# Altium integrated library Linear Technology Operational Amplifiers (LT1000).IntLib: 2280 symbols (part 53 of 79)
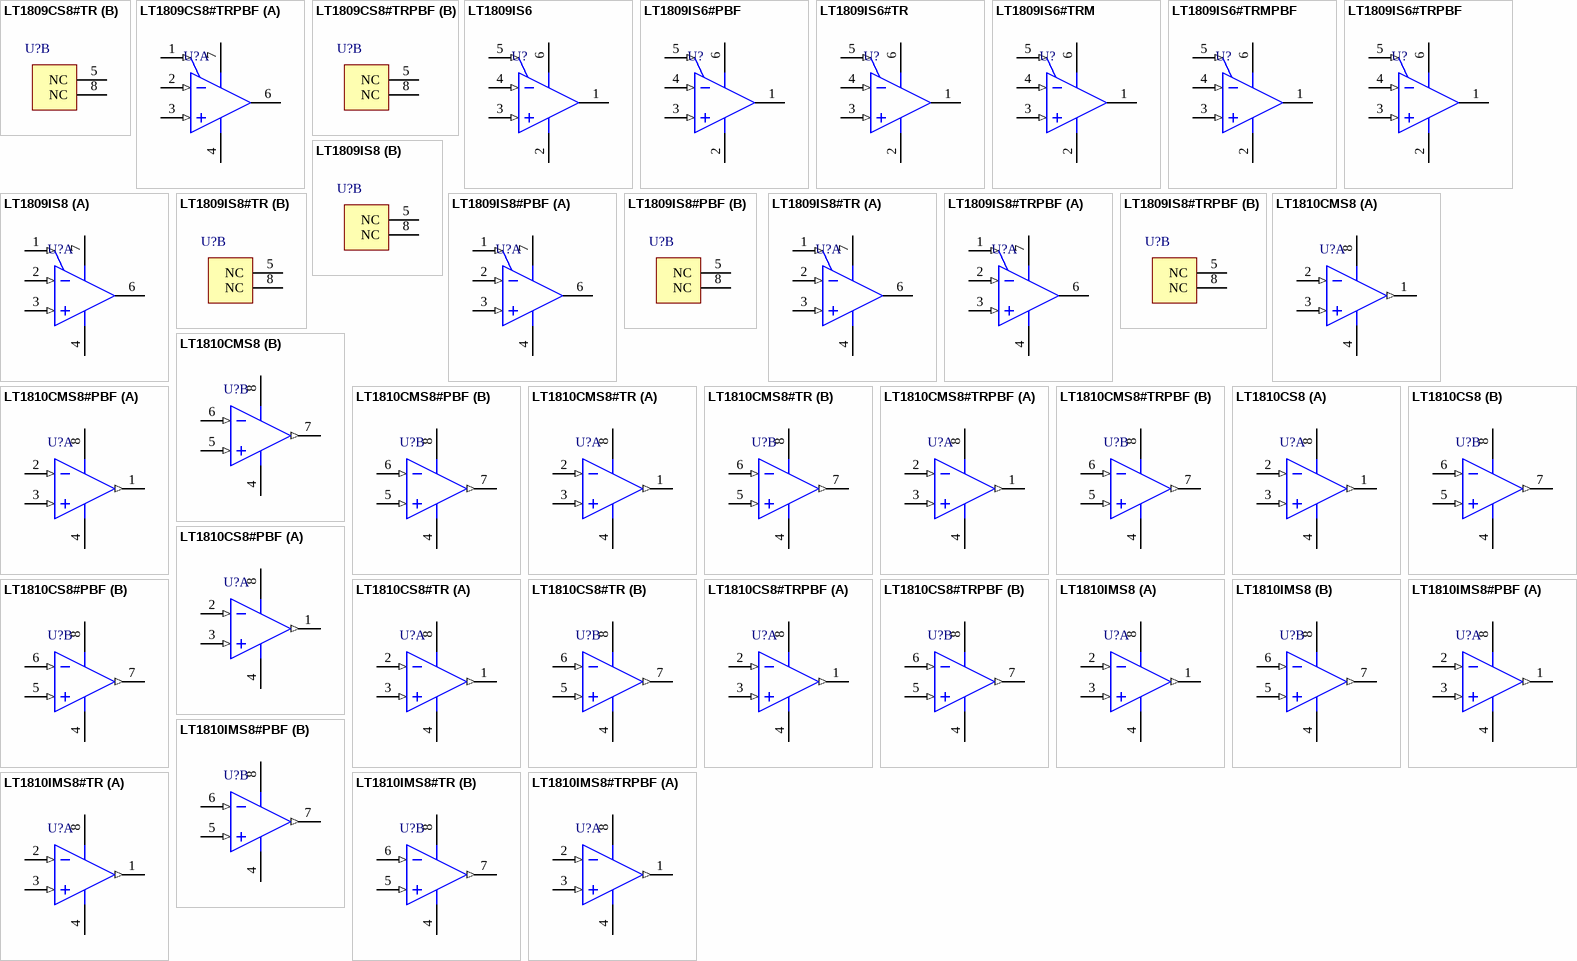
[diagram p157: symbols LT1809CS8#TR to LT1810IMS8#TRPBF]

## LT1809IS8#TR
designator U?
Single Channel, Low Distortion, High Speed, Low Noise Operational Amplifier, RRIO, 160 MHz Typical GBW, 300 V/us Typical SR, 2.5 to 12.6 V, 8-Pin SOIC (S8-8), Industrial, Reel; Linear Technology Part Number: LT1809; Manufacturer: Linear Technology; PartNumber: LT1809IS8#TR; Channels (#): 1; GBW (MHz) Typical: 160; Is (mA) Typical: 12.5; SR (V/us) Typical: 300; Vos (mV) Guaranteed: 2.5; Vos (mV) Typical: 0.6; Vs Max (V): 12.6; DatasheetVersion: Rev. A; PackageVersion: Rev G; PackageReference: LT-S8-8; PackageDescription: 8-Pin Plastic Small Outline, Body 4.9 x 3.9 mm, Pitch 1.27 mm; Supplier 1: Digi-Key; Supplier Part Number 1: LT1809IS8#TR-ND; Packing: Reel; Type: VFB; Vs Min (V): 2.5; Mounting Technology: Surface Mount; ComponentLink1Description: Manufacturer URL; ComponentLink1URL: http://www.linear.com/; ComponentLink2Description: Datasheet; ComponentLink2URL: http://cds.linear.com/docs/en/datasheet/180910fa.pdf; ComponentLink3Description: Package Specification; ComponentLink3URL: http://cds.linear.com/docs/en/packaging/05081610_G_SO8.pdf
footprint LT-S8-8_N (SOIC, 8-Leads, Body 4.9x3.9mm, Pitch 1.27mm, IPC Medium Density)
footprint LT-S8-8_L (SOIC, 8-Leads, Body 4.9x3.9mm, Pitch 1.27mm, IPC High Density)
footprint LT-S8-8_M (SOIC, 8-Leads, Body 4.9x3.9mm, Pitch 1.27mm, IPC Low Density)
part A pins: 1 ~{SHDN} (in), 2 -IN (in), 3 +IN (in), 4 V- (power), 6 OUT (hiz), 7 V+ (power)
part B pins: 5 NC, 8 NC

## LT1809IS8#TRPBF
designator U?
Single Channel, Low Distortion, High Speed, Low Noise Operational Amplifier, RRIO, 160 MHz Typical GBW, 300 V/us Typical SR, 2.5 to 12.6 V, 8-Pin SOIC (S8-8), Industrial, Pb-Free, Reel; Linear Technology Part Number: LT1809; Manufacturer: Linear Technology; PartNumber: LT1809IS8#TRPBF; Channels (#): 1; GBW (MHz) Typical: 160; Is (mA) Typical: 12.5; SR (V/us) Typical: 300; Vos (mV) Guaranteed: 2.5; Vos (mV) Typical: 0.6; Vs Max (V): 12.6; DatasheetVersion: Rev. A; PackageVersion: Rev G; PackageReference: LT-S8-8; PackageDescription: 8-Pin Plastic Small Outline, Body 4.9 x 3.9 mm, Pitch 1.27 mm; Supplier 1: Digi-Key; Supplier Part Number 1: LT1809IS8#TRPBF-ND; Packing: Reel; RoHS: Pb-Free; Type: VFB; Vs Min (V): 2.5; Mounting Technology: Surface Mount; ComponentLink1Description: Manufacturer URL; ComponentLink1URL: http://www.linear.com/; ComponentLink2Description: Datasheet; ComponentLink2URL: http://cds.linear.com/docs/en/datasheet/180910fa.pdf; ComponentLink3Description: Package Specification; ComponentLink3URL: http://cds.linear.com/docs/en/packaging/05081610_G_SO8.pdf
footprint LT-S8-8_N (SOIC, 8-Leads, Body 4.9x3.9mm, Pitch 1.27mm, IPC Medium Density)
footprint LT-S8-8_L (SOIC, 8-Leads, Body 4.9x3.9mm, Pitch 1.27mm, IPC High Density)
footprint LT-S8-8_M (SOIC, 8-Leads, Body 4.9x3.9mm, Pitch 1.27mm, IPC Low Density)
part A pins: 1 ~{SHDN} (in), 2 -IN (in), 3 +IN (in), 4 V- (power), 6 OUT (hiz), 7 V+ (power)
part B pins: 5 NC, 8 NC

## LT1810CMS8
designator U?
Dual Channel, Low Distortion, High Speed, Low Noise Operational Amplifier, RRIO, 160 MHz Typical GBW, 300 V/us Typical SR, 2.3 to 12.6 V, 8-Pin SOP (MS8-8), Commercial; Linear Technology Part Number: LT1810; Manufacturer: Linear Technology; PartNumber: LT1810CMS8; Channels (#): 2; GBW (MHz) Typical: 160; Is (mA) Typical: 12.5; SR (V/us) Typical: 300; Vos (mV) Guaranteed: 2.5; Vos (mV) Typical: 0.6; Vs Max (V): 12.6; Vs Min (V): 2.3; DatasheetVersion: Rev. A; PackageVersion: Rev G; PackageReference: LT-MS8-8; PackageDescription: 8-Lead Plastic Small Outline, Body 3.9 x 4.9 mm, Pitch 1.27 mm; Supplier 1: Digi-Key; Supplier Part Number 1: LT1810CMS8-ND; Type: VFB; Mounting Technology: Surface Mount; ComponentLink1Description: Manufacturer URL; ComponentLink1URL: http://www.linear.com/; ComponentLink2Description: Datasheet; ComponentLink2URL: http://cds.linear.com/docs/en/datasheet/180910fa.pdf; ComponentLink3Description: Package Specification; ComponentLink3URL: http://cds.linear.com/docs/en/packaging/05081610_G_SO8.pdf
footprint LT-MS8-8_N (SOP, 8-Leads, Body 3x3mm, Pitch 0.65mm, IPC Medium Density)
footprint LT-MS8-8_L (SOP, 8-Leads, Body 3x3mm, Pitch 0.65mm, IPC High Density)
footprint LT-MS8-8_M (SOP, 8-Leads, Body 3x3mm, Pitch 0.65mm, IPC Low Density)
pins on every part: 4 V- (power), 8 V+ (power)
part A pins: 1 OUT A (out), 2 -IN A (in), 3 +IN A (in)
part B pins: 5 +IN B (in), 6 -IN B (in), 7 OUT B (out)

## LT1810CMS8#PBF
designator U?
Dual Channel, Low Distortion, High Speed, Low Noise Operational Amplifier, RRIO, 160 MHz Typical GBW, 300 V/us Typical SR, 2.3 to 12.6 V, 8-Pin SOP (MS8-8), Commercial, Pb-Free; Linear Technology Part Number: LT1810; Manufacturer: Linear Technology; PartNumber: LT1810CMS8#PBF; Channels (#): 2; GBW (MHz) Typical: 160; Is (mA) Typical: 12.5; SR (V/us) Typical: 300; Vos (mV) Guaranteed: 2.5; Vos (mV) Typical: 0.6; Vs Max (V): 12.6; Vs Min (V): 2.3; DatasheetVersion: Rev. A; PackageVersion: Rev G; PackageReference: LT-MS8-8; PackageDescription: 8-Lead Plastic Small Outline, Body 3.9 x 4.9 mm, Pitch 1.27 mm; Supplier 1: Digi-Key; Supplier Part Number 1: LT1810CMS8#PBF-ND; Supplier 2: Farnell; Supplier Part Number 2: 1330712; Supplier 3: Newark; Supplier Part Number 3: 57M6859; RoHS: Pb-Free; Type: VFB; Mounting Technology: Surface Mount; ComponentLink1Description: Manufacturer URL; ComponentLink1URL: http://www.linear.com/; ComponentLink2Description: Datasheet; ComponentLink2URL: http://cds.linear.com/docs/en/datasheet/180910fa.pdf; ComponentLink3Description: Package Specification; ComponentLink3URL: http://cds.linear.com/docs/en/packaging/05081610_G_SO8.pdf
footprint LT-MS8-8_N (SOP, 8-Leads, Body 3x3mm, Pitch 0.65mm, IPC Medium Density)
footprint LT-MS8-8_L (SOP, 8-Leads, Body 3x3mm, Pitch 0.65mm, IPC High Density)
footprint LT-MS8-8_M (SOP, 8-Leads, Body 3x3mm, Pitch 0.65mm, IPC Low Density)
pins on every part: 4 V- (power), 8 V+ (power)
part A pins: 1 OUT A (out), 2 -IN A (in), 3 +IN A (in)
part B pins: 5 +IN B (in), 6 -IN B (in), 7 OUT B (out)

## LT1810CMS8#TR
designator U?
Dual Channel, Low Distortion, High Speed, Low Noise Operational Amplifier, RRIO, 160 MHz Typical GBW, 300 V/us Typical SR, 2.3 to 12.6 V, 8-Pin SOP (MS8-8), Commercial, Reel; Linear Technology Part Number: LT1810; Manufacturer: Linear Technology; PartNumber: LT1810CMS8#TR; Channels (#): 2; GBW (MHz) Typical: 160; Is (mA) Typical: 12.5; SR (V/us) Typical: 300; Vos (mV) Guaranteed: 2.5; Vos (mV) Typical: 0.6; Vs Max (V): 12.6; Vs Min (V): 2.3; DatasheetVersion: Rev. A; PackageVersion: Rev G; PackageReference: LT-MS8-8; PackageDescription: 8-Lead Plastic Small Outline, Body 3.9 x 4.9 mm, Pitch 1.27 mm; Supplier 1: Digi-Key; Supplier Part Number 1: LT1810CMS8#TR-ND; Packing: Reel; Type: VFB; Mounting Technology: Surface Mount; ComponentLink1Description: Manufacturer URL; ComponentLink1URL: http://www.linear.com/; ComponentLink2Description: Datasheet; ComponentLink2URL: http://cds.linear.com/docs/en/datasheet/180910fa.pdf; ComponentLink3Description: Package Specification; ComponentLink3URL: http://cds.linear.com/docs/en/packaging/05081610_G_SO8.pdf
footprint LT-MS8-8_N (SOP, 8-Leads, Body 3x3mm, Pitch 0.65mm, IPC Medium Density)
footprint LT-MS8-8_L (SOP, 8-Leads, Body 3x3mm, Pitch 0.65mm, IPC High Density)
footprint LT-MS8-8_M (SOP, 8-Leads, Body 3x3mm, Pitch 0.65mm, IPC Low Density)
pins on every part: 4 V- (power), 8 V+ (power)
part A pins: 1 OUT A (out), 2 -IN A (in), 3 +IN A (in)
part B pins: 5 +IN B (in), 6 -IN B (in), 7 OUT B (out)

## LT1810CMS8#TRPBF
designator U?
Dual Channel, Low Distortion, High Speed, Low Noise Operational Amplifier, RRIO, 160 MHz Typical GBW, 300 V/us Typical SR, 2.3 to 12.6 V, 8-Pin SOP (MS8-8), Commercial, Pb-Free, Reel; Linear Technology Part Number: LT1810; Manufacturer: Linear Technology; PartNumber: LT1810CMS8#TRPBF; Channels (#): 2; GBW (MHz) Typical: 160; Is (mA) Typical: 12.5; SR (V/us) Typical: 300; Vos (mV) Guaranteed: 2.5; Vos (mV) Typical: 0.6; Vs Max (V): 12.6; Vs Min (V): 2.3; DatasheetVersion: Rev. A; PackageVersion: Rev G; PackageReference: LT-MS8-8; PackageDescription: 8-Lead Plastic Small Outline, Body 3.9 x 4.9 mm, Pitch 1.27 mm; Supplier 1: Digi-Key; Supplier Part Number 1: LT1810CMS8#TRPBF-ND; Packing: Reel; RoHS: Pb-Free; Type: VFB; Mounting Technology: Surface Mount; ComponentLink1Description: Manufacturer URL; ComponentLink1URL: http://www.linear.com/; ComponentLink2Description: Datasheet; ComponentLink2URL: http://cds.linear.com/docs/en/datasheet/180910fa.pdf; ComponentLink3Description: Package Specification; ComponentLink3URL: http://cds.linear.com/docs/en/packaging/05081610_G_SO8.pdf
footprint LT-MS8-8_N (SOP, 8-Leads, Body 3x3mm, Pitch 0.65mm, IPC Medium Density)
footprint LT-MS8-8_L (SOP, 8-Leads, Body 3x3mm, Pitch 0.65mm, IPC High Density)
footprint LT-MS8-8_M (SOP, 8-Leads, Body 3x3mm, Pitch 0.65mm, IPC Low Density)
pins on every part: 4 V- (power), 8 V+ (power)
part A pins: 1 OUT A (out), 2 -IN A (in), 3 +IN A (in)
part B pins: 5 +IN B (in), 6 -IN B (in), 7 OUT B (out)

## LT1810CS8
designator U?
Dual Channel, Low Distortion, High Speed, Low Noise Operational Amplifier, RRIO, 160 MHz Typical GBW, 300 V/us Typical SR, 2.3 to 12.6 V, 8-Pin SOIC (S8-8), Commercial; Linear Technology Part Number: LT1810; Manufacturer: Linear Technology; PartNumber: LT1810CS8; Channels (#): 2; GBW (MHz) Typical: 160; Is (mA) Typical: 12.5; SR (V/us) Typical: 300; Vos (mV) Guaranteed: 2.5; Vos (mV) Typical: 0.6; Vs Max (V): 12.6; Vs Min (V): 2.3; DatasheetVersion: Rev. A; PackageVersion: Rev G; PackageReference: LT-S8-8; PackageDescription: 8-Pin Plastic Small Outline, Body 4.9 x 3.9 mm, Pitch 1.27 mm; Supplier 1: Digi-Key; Supplier Part Number 1: LT1810CS8-ND; Type: VFB; Mounting Technology: Surface Mount; ComponentLink1Description: Manufacturer URL; ComponentLink1URL: http://www.linear.com/; ComponentLink2Description: Datasheet; ComponentLink2URL: http://cds.linear.com/docs/en/datasheet/180910fa.pdf; ComponentLink3Description: Package Specification; ComponentLink3URL: http://cds.linear.com/docs/en/packaging/05081610_G_SO8.pdf
footprint LT-S8-8_N (SOIC, 8-Leads, Body 4.9x3.9mm, Pitch 1.27mm, IPC Medium Density)
footprint LT-S8-8_L (SOIC, 8-Leads, Body 4.9x3.9mm, Pitch 1.27mm, IPC High Density)
footprint LT-S8-8_M (SOIC, 8-Leads, Body 4.9x3.9mm, Pitch 1.27mm, IPC Low Density)
pins on every part: 4 V- (power), 8 V+ (power)
part A pins: 1 OUT A (out), 2 -IN A (in), 3 +IN A (in)
part B pins: 5 +IN B (in), 6 -IN B (in), 7 OUT B (out)

## LT1810CS8#PBF
designator U?
Dual Channel, Low Distortion, High Speed, Low Noise Operational Amplifier, RRIO, 160 MHz Typical GBW, 300 V/us Typical SR, 2.3 to 12.6 V, 8-Pin SOIC (S8-8), Commercial, Pb-Free; Linear Technology Part Number: LT1810; Manufacturer: Linear Technology; PartNumber: LT1810CS8#PBF; Channels (#): 2; GBW (MHz) Typical: 160; Is (mA) Typical: 12.5; SR (V/us) Typical: 300; Vos (mV) Guaranteed: 2.5; Vos (mV) Typical: 0.6; Vs Max (V): 12.6; Vs Min (V): 2.3; DatasheetVersion: Rev. A; PackageVersion: Rev G; PackageReference: LT-S8-8; PackageDescription: 8-Pin Plastic Small Outline, Body 4.9 x 3.9 mm, Pitch 1.27 mm; Supplier 1: Digi-Key; Supplier Part Number 1: LT1810CS8#PBF-ND; Supplier 2: Newark; Supplier Part Number 2: 57M6863; RoHS: Pb-Free; Type: VFB; Mounting Technology: Surface Mount; ComponentLink1Description: Manufacturer URL; ComponentLink1URL: http://www.linear.com/; ComponentLink2Description: Datasheet; ComponentLink2URL: http://cds.linear.com/docs/en/datasheet/180910fa.pdf; ComponentLink3Description: Package Specification; ComponentLink3URL: http://cds.linear.com/docs/en/packaging/05081610_G_SO8.pdf
footprint LT-S8-8_N (SOIC, 8-Leads, Body 4.9x3.9mm, Pitch 1.27mm, IPC Medium Density)
footprint LT-S8-8_L (SOIC, 8-Leads, Body 4.9x3.9mm, Pitch 1.27mm, IPC High Density)
footprint LT-S8-8_M (SOIC, 8-Leads, Body 4.9x3.9mm, Pitch 1.27mm, IPC Low Density)
pins on every part: 4 V- (power), 8 V+ (power)
part A pins: 1 OUT A (out), 2 -IN A (in), 3 +IN A (in)
part B pins: 5 +IN B (in), 6 -IN B (in), 7 OUT B (out)

## LT1810CS8#TR
designator U?
Dual Channel, Low Distortion, High Speed, Low Noise Operational Amplifier, RRIO, 160 MHz Typical GBW, 300 V/us Typical SR, 2.3 to 12.6 V, 8-Pin SOIC (S8-8), Commercial, Reel; Linear Technology Part Number: LT1810; Manufacturer: Linear Technology; PartNumber: LT1810CS8#TR; Channels (#): 2; GBW (MHz) Typical: 160; Is (mA) Typical: 12.5; SR (V/us) Typical: 300; Vos (mV) Guaranteed: 2.5; Vos (mV) Typical: 0.6; Vs Max (V): 12.6; Vs Min (V): 2.3; DatasheetVersion: Rev. A; PackageVersion: Rev G; PackageReference: LT-S8-8; PackageDescription: 8-Pin Plastic Small Outline, Body 4.9 x 3.9 mm, Pitch 1.27 mm; Supplier 1: Digi-Key; Supplier Part Number 1: LT1810CS8#TR-ND; Packing: Reel; Type: VFB; Mounting Technology: Surface Mount; ComponentLink1Description: Manufacturer URL; ComponentLink1URL: http://www.linear.com/; ComponentLink2Description: Datasheet; ComponentLink2URL: http://cds.linear.com/docs/en/datasheet/180910fa.pdf; ComponentLink3Description: Package Specification; ComponentLink3URL: http://cds.linear.com/docs/en/packaging/05081610_G_SO8.pdf
footprint LT-S8-8_N (SOIC, 8-Leads, Body 4.9x3.9mm, Pitch 1.27mm, IPC Medium Density)
footprint LT-S8-8_L (SOIC, 8-Leads, Body 4.9x3.9mm, Pitch 1.27mm, IPC High Density)
footprint LT-S8-8_M (SOIC, 8-Leads, Body 4.9x3.9mm, Pitch 1.27mm, IPC Low Density)
pins on every part: 4 V- (power), 8 V+ (power)
part A pins: 1 OUT A (out), 2 -IN A (in), 3 +IN A (in)
part B pins: 5 +IN B (in), 6 -IN B (in), 7 OUT B (out)

## LT1810CS8#TRPBF
designator U?
Dual Channel, Low Distortion, High Speed, Low Noise Operational Amplifier, RRIO, 160 MHz Typical GBW, 300 V/us Typical SR, 2.3 to 12.6 V, 8-Pin SOIC (S8-8), Commercial, Pb-Free, Reel; Linear Technology Part Number: LT1810; Manufacturer: Linear Technology; PartNumber: LT1810CS8#TRPBF; Channels (#): 2; GBW (MHz) Typical: 160; Is (mA) Typical: 12.5; SR (V/us) Typical: 300; Vos (mV) Guaranteed: 2.5; Vos (mV) Typical: 0.6; Vs Max (V): 12.6; Vs Min (V): 2.3; DatasheetVersion: Rev. A; PackageVersion: Rev G; PackageReference: LT-S8-8; PackageDescription: 8-Pin Plastic Small Outline, Body 4.9 x 3.9 mm, Pitch 1.27 mm; Supplier 1: Digi-Key; Supplier Part Number 1: LT1810CS8#TRPBF-ND; Packing: Reel; RoHS: Pb-Free; Type: VFB; Mounting Technology: Surface Mount; ComponentLink1Description: Manufacturer URL; ComponentLink1URL: http://www.linear.com/; ComponentLink2Description: Datasheet; ComponentLink2URL: http://cds.linear.com/docs/en/datasheet/180910fa.pdf; ComponentLink3Description: Package Specification; ComponentLink3URL: http://cds.linear.com/docs/en/packaging/05081610_G_SO8.pdf
footprint LT-S8-8_N (SOIC, 8-Leads, Body 4.9x3.9mm, Pitch 1.27mm, IPC Medium Density)
footprint LT-S8-8_L (SOIC, 8-Leads, Body 4.9x3.9mm, Pitch 1.27mm, IPC High Density)
footprint LT-S8-8_M (SOIC, 8-Leads, Body 4.9x3.9mm, Pitch 1.27mm, IPC Low Density)
pins on every part: 4 V- (power), 8 V+ (power)
part A pins: 1 OUT A (out), 2 -IN A (in), 3 +IN A (in)
part B pins: 5 +IN B (in), 6 -IN B (in), 7 OUT B (out)

## LT1810IMS8
designator U?
Dual Channel, Low Distortion, High Speed, Low Noise Operational Amplifier, RRIO, 160 MHz Typical GBW, 300 V/us Typical SR, 2.3 to 12.6 V, 8-Pin SOP (MS8-8), Industrial; Linear Technology Part Number: LT1810; Manufacturer: Linear Technology; PartNumber: LT1810IMS8; Channels (#): 2; GBW (MHz) Typical: 160; Is (mA) Typical: 12.5; SR (V/us) Typical: 300; Vos (mV) Guaranteed: 2.5; Vos (mV) Typical: 0.6; Vs Max (V): 12.6; Vs Min (V): 2.3; DatasheetVersion: Rev. A; PackageVersion: Rev G; PackageReference: LT-MS8-8; PackageDescription: 8-Lead Plastic Small Outline, Body 3.9 x 4.9 mm, Pitch 1.27 mm; Supplier 1: Digi-Key; Supplier Part Number 1: LT1810IMS8-ND; Supplier 2: Newark; Supplier Part Number 2: 57M6866; Type: VFB; Mounting Technology: Surface Mount; ComponentLink1Description: Manufacturer URL; ComponentLink1URL: http://www.linear.com/; ComponentLink2Description: Datasheet; ComponentLink2URL: http://cds.linear.com/docs/en/datasheet/180910fa.pdf; ComponentLink3Description: Package Specification; ComponentLink3URL: http://cds.linear.com/docs/en/packaging/05081610_G_SO8.pdf
footprint LT-MS8-8_N (SOP, 8-Leads, Body 3x3mm, Pitch 0.65mm, IPC Medium Density)
footprint LT-MS8-8_L (SOP, 8-Leads, Body 3x3mm, Pitch 0.65mm, IPC High Density)
footprint LT-MS8-8_M (SOP, 8-Leads, Body 3x3mm, Pitch 0.65mm, IPC Low Density)
pins on every part: 4 V- (power), 8 V+ (power)
part A pins: 1 OUT A (out), 2 -IN A (in), 3 +IN A (in)
part B pins: 5 +IN B (in), 6 -IN B (in), 7 OUT B (out)

## LT1810IMS8#PBF
designator U?
Dual Channel, Low Distortion, High Speed, Low Noise Operational Amplifier, RRIO, 160 MHz Typical GBW, 300 V/us Typical SR, 2.3 to 12.6 V, 8-Pin SOP (MS8-8), Industrial, Pb-Free; Linear Technology Part Number: LT1810; Manufacturer: Linear Technology; PartNumber: LT1810IMS8#PBF; Channels (#): 2; GBW (MHz) Typical: 160; Is (mA) Typical: 12.5; SR (V/us) Typical: 300; Vos (mV) Guaranteed: 2.5; Vos (mV) Typical: 0.6; Vs Max (V): 12.6; Vs Min (V): 2.3; DatasheetVersion: Rev. A; PackageVersion: Rev G; PackageReference: LT-MS8-8; PackageDescription: 8-Lead Plastic Small Outline, Body 3.9 x 4.9 mm, Pitch 1.27 mm; Supplier 1: Digi-Key; Supplier Part Number 1: LT1810IMS8#PBF-ND; Supplier 2: Newark; Supplier Part Number 2: 57M6867; RoHS: Pb-Free; Type: VFB; Mounting Technology: Surface Mount; ComponentLink1Description: Manufacturer URL; ComponentLink1URL: http://www.linear.com/; ComponentLink2Description: Datasheet; ComponentLink2URL: http://cds.linear.com/docs/en/datasheet/180910fa.pdf; ComponentLink3Description: Package Specification; ComponentLink3URL: http://cds.linear.com/docs/en/packaging/05081610_G_SO8.pdf
footprint LT-MS8-8_N (SOP, 8-Leads, Body 3x3mm, Pitch 0.65mm, IPC Medium Density)
footprint LT-MS8-8_L (SOP, 8-Leads, Body 3x3mm, Pitch 0.65mm, IPC High Density)
footprint LT-MS8-8_M (SOP, 8-Leads, Body 3x3mm, Pitch 0.65mm, IPC Low Density)
pins on every part: 4 V- (power), 8 V+ (power)
part A pins: 1 OUT A (out), 2 -IN A (in), 3 +IN A (in)
part B pins: 5 +IN B (in), 6 -IN B (in), 7 OUT B (out)

## LT1810IMS8#TR
designator U?
Dual Channel, Low Distortion, High Speed, Low Noise Operational Amplifier, RRIO, 160 MHz Typical GBW, 300 V/us Typical SR, 2.3 to 12.6 V, 8-Pin SOP (MS8-8), Industrial, Reel; Linear Technology Part Number: LT1810; Manufacturer: Linear Technology; PartNumber: LT1810IMS8#TR; Channels (#): 2; GBW (MHz) Typical: 160; Is (mA) Typical: 12.5; SR (V/us) Typical: 300; Vos (mV) Guaranteed: 2.5; Vos (mV) Typical: 0.6; Vs Max (V): 12.6; Vs Min (V): 2.3; DatasheetVersion: Rev. A; PackageVersion: Rev G; PackageReference: LT-MS8-8; PackageDescription: 8-Lead Plastic Small Outline, Body 3.9 x 4.9 mm, Pitch 1.27 mm; Supplier 1: Digi-Key; Supplier Part Number 1: LT1810IMS8#TR-ND; Packing: Reel; Type: VFB; Mounting Technology: Surface Mount; ComponentLink1Description: Manufacturer URL; ComponentLink1URL: http://www.linear.com/; ComponentLink2Description: Datasheet; ComponentLink2URL: http://cds.linear.com/docs/en/datasheet/180910fa.pdf; ComponentLink3Description: Package Specification; ComponentLink3URL: http://cds.linear.com/docs/en/packaging/05081610_G_SO8.pdf
footprint LT-MS8-8_N (SOP, 8-Leads, Body 3x3mm, Pitch 0.65mm, IPC Medium Density)
footprint LT-MS8-8_L (SOP, 8-Leads, Body 3x3mm, Pitch 0.65mm, IPC High Density)
footprint LT-MS8-8_M (SOP, 8-Leads, Body 3x3mm, Pitch 0.65mm, IPC Low Density)
pins on every part: 4 V- (power), 8 V+ (power)
part A pins: 1 OUT A (out), 2 -IN A (in), 3 +IN A (in)
part B pins: 5 +IN B (in), 6 -IN B (in), 7 OUT B (out)

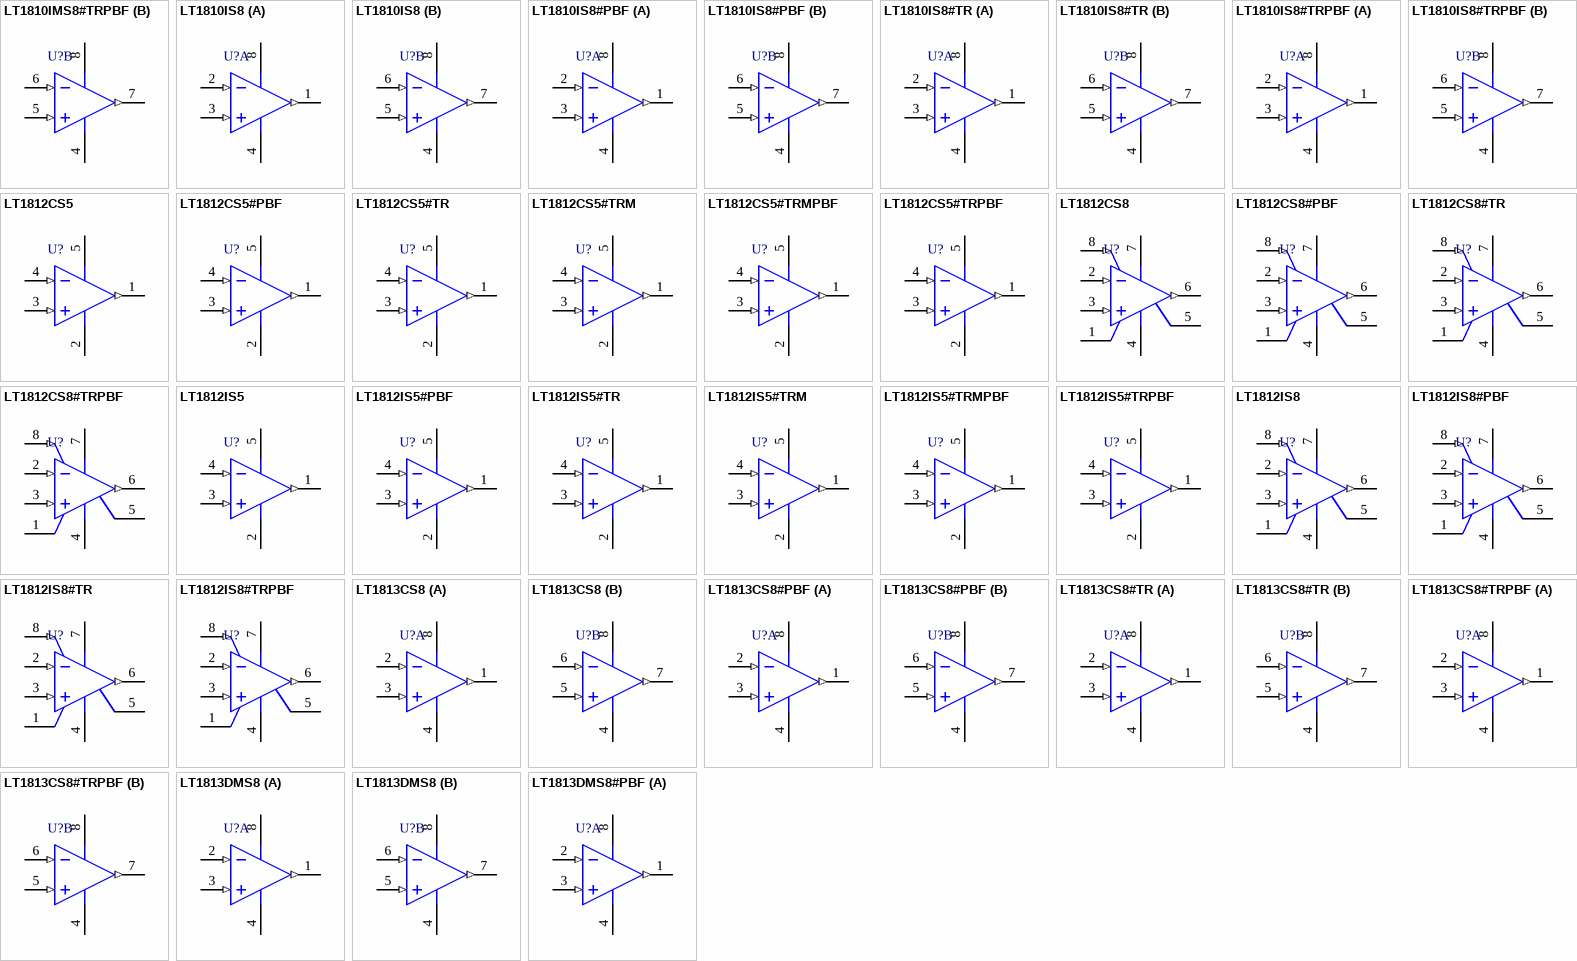
[diagram p82: symbols LT1810IMS8#TRPBF to LT1813DMS8#PBF]

## LT1810IMS8#TRPBF
designator U?
Dual Channel, Low Distortion, High Speed, Low Noise Operational Amplifier, RRIO, 160 MHz Typical GBW, 300 V/us Typical SR, 2.3 to 12.6 V, 8-Pin SOP (MS8-8), Industrial, Pb-Free, Reel; Linear Technology Part Number: LT1810; Manufacturer: Linear Technology; PartNumber: LT1810IMS8#TRPBF; Channels (#): 2; GBW (MHz) Typical: 160; Is (mA) Typical: 12.5; SR (V/us) Typical: 300; Vos (mV) Guaranteed: 2.5; Vos (mV) Typical: 0.6; Vs Max (V): 12.6; Vs Min (V): 2.3; DatasheetVersion: Rev. A; PackageVersion: Rev G; PackageReference: LT-MS8-8; PackageDescription: 8-Lead Plastic Small Outline, Body 3.9 x 4.9 mm, Pitch 1.27 mm; Supplier 1: Digi-Key; Supplier Part Number 1: LT1810IMS8#TRPBF-ND; Packing: Reel; RoHS: Pb-Free; Type: VFB; Mounting Technology: Surface Mount; ComponentLink1Description: Manufacturer URL; ComponentLink1URL: http://www.linear.com/; ComponentLink2Description: Datasheet; ComponentLink2URL: http://cds.linear.com/docs/en/datasheet/180910fa.pdf; ComponentLink3Description: Package Specification; ComponentLink3URL: http://cds.linear.com/docs/en/packaging/05081610_G_SO8.pdf
footprint LT-MS8-8_N (SOP, 8-Leads, Body 3x3mm, Pitch 0.65mm, IPC Medium Density)
footprint LT-MS8-8_L (SOP, 8-Leads, Body 3x3mm, Pitch 0.65mm, IPC High Density)
footprint LT-MS8-8_M (SOP, 8-Leads, Body 3x3mm, Pitch 0.65mm, IPC Low Density)
pins on every part: 4 V- (power), 8 V+ (power)
part A pins: 1 OUT A (out), 2 -IN A (in), 3 +IN A (in)
part B pins: 5 +IN B (in), 6 -IN B (in), 7 OUT B (out)

## LT1810IS8
designator U?
Dual Channel, Low Distortion, High Speed, Low Noise Operational Amplifier, RRIO, 160 MHz Typical GBW, 300 V/us Typical SR, 2.3 to 12.6 V, 8-Pin SOIC (S8-8), Industrial; Linear Technology Part Number: LT1810; Manufacturer: Linear Technology; PartNumber: LT1810IS8; Channels (#): 2; GBW (MHz) Typical: 160; Is (mA) Typical: 12.5; SR (V/us) Typical: 300; Vos (mV) Guaranteed: 2.5; Vos (mV) Typical: 0.6; Vs Max (V): 12.6; Vs Min (V): 2.3; DatasheetVersion: Rev. A; PackageVersion: Rev G; PackageReference: LT-S8-8; PackageDescription: 8-Pin Plastic Small Outline, Body 4.9 x 3.9 mm, Pitch 1.27 mm; Supplier 1: Digi-Key; Supplier Part Number 1: LT1810IS8-ND; Supplier 2: Newark; Supplier Part Number 2: 57M6870; Type: VFB; Mounting Technology: Surface Mount; ComponentLink1Description: Manufacturer URL; ComponentLink1URL: http://www.linear.com/; ComponentLink2Description: Datasheet; ComponentLink2URL: http://cds.linear.com/docs/en/datasheet/180910fa.pdf; ComponentLink3Description: Package Specification; ComponentLink3URL: http://cds.linear.com/docs/en/packaging/05081610_G_SO8.pdf
footprint LT-S8-8_N (SOIC, 8-Leads, Body 4.9x3.9mm, Pitch 1.27mm, IPC Medium Density)
footprint LT-S8-8_L (SOIC, 8-Leads, Body 4.9x3.9mm, Pitch 1.27mm, IPC High Density)
footprint LT-S8-8_M (SOIC, 8-Leads, Body 4.9x3.9mm, Pitch 1.27mm, IPC Low Density)
pins on every part: 4 V- (power), 8 V+ (power)
part A pins: 1 OUT A (out), 2 -IN A (in), 3 +IN A (in)
part B pins: 5 +IN B (in), 6 -IN B (in), 7 OUT B (out)

## LT1810IS8#PBF
designator U?
Dual Channel, Low Distortion, High Speed, Low Noise Operational Amplifier, RRIO, 160 MHz Typical GBW, 300 V/us Typical SR, 2.3 to 12.6 V, 8-Pin SOIC (S8-8), Industrial, Pb-Free; Linear Technology Part Number: LT1810; Manufacturer: Linear Technology; PartNumber: LT1810IS8#PBF; Channels (#): 2; GBW (MHz) Typical: 160; Is (mA) Typical: 12.5; SR (V/us) Typical: 300; Vos (mV) Guaranteed: 2.5; Vos (mV) Typical: 0.6; Vs Max (V): 12.6; Vs Min (V): 2.3; DatasheetVersion: Rev. A; PackageVersion: Rev G; PackageReference: LT-S8-8; PackageDescription: 8-Pin Plastic Small Outline, Body 4.9 x 3.9 mm, Pitch 1.27 mm; Supplier 1: Digi-Key; Supplier Part Number 1: LT1810IS8#PBF-ND; Supplier 2: Newark; Supplier Part Number 2: 57M6871; RoHS: Pb-Free; Type: VFB; Mounting Technology: Surface Mount; ComponentLink1Description: Manufacturer URL; ComponentLink1URL: http://www.linear.com/; ComponentLink2Description: Datasheet; ComponentLink2URL: http://cds.linear.com/docs/en/datasheet/180910fa.pdf; ComponentLink3Description: Package Specification; ComponentLink3URL: http://cds.linear.com/docs/en/packaging/05081610_G_SO8.pdf
footprint LT-S8-8_N (SOIC, 8-Leads, Body 4.9x3.9mm, Pitch 1.27mm, IPC Medium Density)
footprint LT-S8-8_L (SOIC, 8-Leads, Body 4.9x3.9mm, Pitch 1.27mm, IPC High Density)
footprint LT-S8-8_M (SOIC, 8-Leads, Body 4.9x3.9mm, Pitch 1.27mm, IPC Low Density)
pins on every part: 4 V- (power), 8 V+ (power)
part A pins: 1 OUT A (out), 2 -IN A (in), 3 +IN A (in)
part B pins: 5 +IN B (in), 6 -IN B (in), 7 OUT B (out)

## LT1810IS8#TR
designator U?
Dual Channel, Low Distortion, High Speed, Low Noise Operational Amplifier, RRIO, 160 MHz Typical GBW, 300 V/us Typical SR, 2.3 to 12.6 V, 8-Pin SOIC (S8-8), Industrial, Reel; Linear Technology Part Number: LT1810; Manufacturer: Linear Technology; PartNumber: LT1810IS8#TR; Channels (#): 2; GBW (MHz) Typical: 160; Is (mA) Typical: 12.5; SR (V/us) Typical: 300; Vos (mV) Guaranteed: 2.5; Vos (mV) Typical: 0.6; Vs Max (V): 12.6; Vs Min (V): 2.3; DatasheetVersion: Rev. A; PackageVersion: Rev G; PackageReference: LT-S8-8; PackageDescription: 8-Pin Plastic Small Outline, Body 4.9 x 3.9 mm, Pitch 1.27 mm; Supplier 1: Digi-Key; Supplier Part Number 1: LT1810IS8#TR-ND; Packing: Reel; Type: VFB; Mounting Technology: Surface Mount; ComponentLink1Description: Manufacturer URL; ComponentLink1URL: http://www.linear.com/; ComponentLink2Description: Datasheet; ComponentLink2URL: http://cds.linear.com/docs/en/datasheet/180910fa.pdf; ComponentLink3Description: Package Specification; ComponentLink3URL: http://cds.linear.com/docs/en/packaging/05081610_G_SO8.pdf
footprint LT-S8-8_N (SOIC, 8-Leads, Body 4.9x3.9mm, Pitch 1.27mm, IPC Medium Density)
footprint LT-S8-8_L (SOIC, 8-Leads, Body 4.9x3.9mm, Pitch 1.27mm, IPC High Density)
footprint LT-S8-8_M (SOIC, 8-Leads, Body 4.9x3.9mm, Pitch 1.27mm, IPC Low Density)
pins on every part: 4 V- (power), 8 V+ (power)
part A pins: 1 OUT A (out), 2 -IN A (in), 3 +IN A (in)
part B pins: 5 +IN B (in), 6 -IN B (in), 7 OUT B (out)

## LT1810IS8#TRPBF
designator U?
Dual Channel, Low Distortion, High Speed, Low Noise Operational Amplifier, RRIO, 160 MHz Typical GBW, 300 V/us Typical SR, 2.3 to 12.6 V, 8-Pin SOIC (S8-8), Industrial, Pb-Free, Reel; Linear Technology Part Number: LT1810; Manufacturer: Linear Technology; PartNumber: LT1810IS8#TRPBF; Channels (#): 2; GBW (MHz) Typical: 160; Is (mA) Typical: 12.5; SR (V/us) Typical: 300; Vos (mV) Guaranteed: 2.5; Vos (mV) Typical: 0.6; Vs Max (V): 12.6; Vs Min (V): 2.3; DatasheetVersion: Rev. A; PackageVersion: Rev G; PackageReference: LT-S8-8; PackageDescription: 8-Pin Plastic Small Outline, Body 4.9 x 3.9 mm, Pitch 1.27 mm; Supplier 1: Digi-Key; Supplier Part Number 1: LT1810IS8#TRPBF-ND; Packing: Reel; RoHS: Pb-Free; Type: VFB; Mounting Technology: Surface Mount; ComponentLink1Description: Manufacturer URL; ComponentLink1URL: http://www.linear.com/; ComponentLink2Description: Datasheet; ComponentLink2URL: http://cds.linear.com/docs/en/datasheet/180910fa.pdf; ComponentLink3Description: Package Specification; ComponentLink3URL: http://cds.linear.com/docs/en/packaging/05081610_G_SO8.pdf
footprint LT-S8-8_N (SOIC, 8-Leads, Body 4.9x3.9mm, Pitch 1.27mm, IPC Medium Density)
footprint LT-S8-8_L (SOIC, 8-Leads, Body 4.9x3.9mm, Pitch 1.27mm, IPC High Density)
footprint LT-S8-8_M (SOIC, 8-Leads, Body 4.9x3.9mm, Pitch 1.27mm, IPC Low Density)
pins on every part: 4 V- (power), 8 V+ (power)
part A pins: 1 OUT A (out), 2 -IN A (in), 3 +IN A (in)
part B pins: 5 +IN B (in), 6 -IN B (in), 7 OUT B (out)

## LT1812CS5
designator U?
Single Channel, Low Noise, High Speed, High Power, Operational Amplifier with Shutdown, 100 MHz Typical GBW, 750 V/us Typical SR, 2.5 to 12.6 V, 5-Pin SOT23 (S5-5), Commercial; Linear Technology Part Number: LT1812; Manufacturer: Linear Technology; PartNumber: LT1812CS5; Channels (#): 1; GBW (MHz) Typical: 100; Is (mA) Typical: 3; SR (V/us) Typical: 750; Vos (mV) Guaranteed: 1.5; Vos (mV) Typical: 0.4; Vs Max (V): 12.6; Vs Min (V): 2.5; DatasheetVersion: Rev. B; PackageReference: LT-S5-5-TSOT-23; PackageDescription: 5-Lead Plastic TSOT-23, Body 1.63 x 2.90 mm, Pitch 0.95 mm; Type: VFB; Mounting Technology: Surface Mount; Code_JEDEC: MO-193; ComponentLink1Description: Manufacturer URL; ComponentLink1URL: http://www.linear.com/; ComponentLink2Description: Datasheet; ComponentLink2URL: http://cds.linear.com/docs/en/datasheet/1812fb.pdf; ComponentLink3Description: Package Specification; ComponentLink3URL: http://cds.linear.com/docs/en/packaging/SOT_5_05-08-1635.pdf
footprint LT-S5-5-TSOT-23_N (SOT23, 5-Leads, Body 2.90x1.63mm, Pitch 0.95mm, IPC Medium Density)
footprint LT-S5-5-TSOT-23_L (SOT23, 5-Leads, Body 2.90x1.63mm, Pitch 0.95mm, IPC High Density)
footprint LT-S5-5-TSOT-23_M (SOT23, 5-Leads, Body 2.90x1.63mm, Pitch 0.95mm, IPC Low Density)
pins: 1 VOUT (out), 2 V- (power), 3 +IN (in), 4 -IN (in), 5 V+ (power)

## LT1812CS5#PBF
designator U?
Single Channel, Low Noise, High Speed, High Power, Operational Amplifier with Shutdown, 100 MHz Typical GBW, 750 V/us Typical SR, 2.5 to 12.6 V, 5-Pin SOT23 (S5-5), Commercial, Pb-Free; Linear Technology Part Number: LT1812; Manufacturer: Linear Technology; PartNumber: LT1812CS5#PBF; Channels (#): 1; GBW (MHz) Typical: 100; Is (mA) Typical: 3; SR (V/us) Typical: 750; Vos (mV) Guaranteed: 1.5; Vos (mV) Typical: 0.4; Vs Max (V): 12.6; Vs Min (V): 2.5; DatasheetVersion: Rev. B; PackageReference: LT-S5-5-TSOT-23; PackageDescription: 5-Lead Plastic TSOT-23, Body 1.63 x 2.90 mm, Pitch 0.95 mm; Supplier 1: Newark; Supplier Part Number 1: 78T3746; RoHS: Pb-Free; Type: VFB; Mounting Technology: Surface Mount; Code_JEDEC: MO-193; ComponentLink1Description: Manufacturer URL; ComponentLink1URL: http://www.linear.com/; ComponentLink2Description: Datasheet; ComponentLink2URL: http://cds.linear.com/docs/en/datasheet/1812fb.pdf; ComponentLink3Description: Package Specification; ComponentLink3URL: http://cds.linear.com/docs/en/packaging/SOT_5_05-08-1635.pdf
footprint LT-S5-5-TSOT-23_N (SOT23, 5-Leads, Body 2.90x1.63mm, Pitch 0.95mm, IPC Medium Density)
footprint LT-S5-5-TSOT-23_L (SOT23, 5-Leads, Body 2.90x1.63mm, Pitch 0.95mm, IPC High Density)
footprint LT-S5-5-TSOT-23_M (SOT23, 5-Leads, Body 2.90x1.63mm, Pitch 0.95mm, IPC Low Density)
pins: 1 VOUT (out), 2 V- (power), 3 +IN (in), 4 -IN (in), 5 V+ (power)

## LT1812CS5#TR
designator U?
Single Channel, Low Noise, High Speed, High Power, Operational Amplifier with Shutdown, 100 MHz Typical GBW, 750 V/us Typical SR, 2.5 to 12.6 V, 5-Pin SOT23 (S5-5), Commercial, Reel; Linear Technology Part Number: LT1812; Manufacturer: Linear Technology; PartNumber: LT1812CS5#TR; Channels (#): 1; GBW (MHz) Typical: 100; Is (mA) Typical: 3; SR (V/us) Typical: 750; Vos (mV) Guaranteed: 1.5; Vos (mV) Typical: 0.4; Vs Max (V): 12.6; Vs Min (V): 2.5; DatasheetVersion: Rev. B; PackageReference: LT-S5-5-TSOT-23; PackageDescription: 5-Lead Plastic TSOT-23, Body 1.63 x 2.90 mm, Pitch 0.95 mm; Supplier 1: Digi-Key; Supplier Part Number 1: LT1812CS5#TR-ND; Packing: Reel; Type: VFB; Mounting Technology: Surface Mount; Code_JEDEC: MO-193; ComponentLink1Description: Manufacturer URL; ComponentLink1URL: http://www.linear.com/; ComponentLink2Description: Datasheet; ComponentLink2URL: http://cds.linear.com/docs/en/datasheet/1812fb.pdf; ComponentLink3Description: Package Specification; ComponentLink3URL: http://cds.linear.com/docs/en/packaging/SOT_5_05-08-1635.pdf
footprint LT-S5-5-TSOT-23_N (SOT23, 5-Leads, Body 2.90x1.63mm, Pitch 0.95mm, IPC Medium Density)
footprint LT-S5-5-TSOT-23_L (SOT23, 5-Leads, Body 2.90x1.63mm, Pitch 0.95mm, IPC High Density)
footprint LT-S5-5-TSOT-23_M (SOT23, 5-Leads, Body 2.90x1.63mm, Pitch 0.95mm, IPC Low Density)
pins: 1 VOUT (out), 2 V- (power), 3 +IN (in), 4 -IN (in), 5 V+ (power)

## LT1812CS5#TRM
designator U?
Single Channel, Low Noise, High Speed, High Power, Operational Amplifier with Shutdown, 100 MHz Typical GBW, 750 V/us Typical SR, 2.5 to 12.6 V, 5-Pin SOT23 (S5-5), Commercial, Mini Reel; Linear Technology Part Number: LT1812; Manufacturer: Linear Technology; PartNumber: LT1812CS5#TRM; Channels (#): 1; GBW (MHz) Typical: 100; Is (mA) Typical: 3; SR (V/us) Typical: 750; Vos (mV) Guaranteed: 1.5; Vos (mV) Typical: 0.4; Vs Max (V): 12.6; Vs Min (V): 2.5; DatasheetVersion: Rev. B; PackageReference: LT-S5-5-TSOT-23; PackageDescription: 5-Lead Plastic TSOT-23, Body 1.63 x 2.90 mm, Pitch 0.95 mm; Supplier 1: Digi-Key; Supplier Part Number 1: LT1812CS5#TRMTR-ND; Supplier 2: Digi-Key; Supplier Part Number 2: LT1812CS5#TRMCT-ND; Supplier 3: Digi-Key; Supplier Part Number 3: LT1812CS5#TRMDKR-ND; Packing: Mini Reel; Type: VFB; Mounting Technology: Surface Mount; Code_JEDEC: MO-193; ComponentLink1Description: Manufacturer URL; ComponentLink1URL: http://www.linear.com/; ComponentLink2Description: Datasheet; ComponentLink2URL: http://cds.linear.com/docs/en/datasheet/1812fb.pdf; ComponentLink3Description: Package Specification; ComponentLink3URL: http://cds.linear.com/docs/en/packaging/SOT_5_05-08-1635.pdf
footprint LT-S5-5-TSOT-23_N (SOT23, 5-Leads, Body 2.90x1.63mm, Pitch 0.95mm, IPC Medium Density)
footprint LT-S5-5-TSOT-23_L (SOT23, 5-Leads, Body 2.90x1.63mm, Pitch 0.95mm, IPC High Density)
footprint LT-S5-5-TSOT-23_M (SOT23, 5-Leads, Body 2.90x1.63mm, Pitch 0.95mm, IPC Low Density)
pins: 1 VOUT (out), 2 V- (power), 3 +IN (in), 4 -IN (in), 5 V+ (power)

## LT1812CS5#TRMPBF
designator U?
Single Channel, Low Noise, High Speed, High Power, Operational Amplifier with Shutdown, 100 MHz Typical GBW, 750 V/us Typical SR, 2.5 to 12.6 V, 5-Pin SOT23 (S5-5), Commercial, Pb-Free, Mini Reel; Linear Technology Part Number: LT1812; Manufacturer: Linear Technology; PartNumber: LT1812CS5#TRMPBF; Channels (#): 1; GBW (MHz) Typical: 100; Is (mA) Typical: 3; SR (V/us) Typical: 750; Vos (mV) Guaranteed: 1.5; Vos (mV) Typical: 0.4; Vs Max (V): 12.6; Vs Min (V): 2.5; DatasheetVersion: Rev. B; PackageReference: LT-S5-5-TSOT-23; PackageDescription: 5-Lead Plastic TSOT-23, Body 1.63 x 2.90 mm, Pitch 0.95 mm; Supplier 1: Digi-Key; Supplier Part Number 1: LT1812CS5#TRMPBF-ND; Packing: Mini Reel; RoHS: Pb-Free; Type: VFB; Mounting Technology: Surface Mount; Code_JEDEC: MO-193; ComponentLink1Description: Manufacturer URL; ComponentLink1URL: http://www.linear.com/; ComponentLink2Description: Datasheet; ComponentLink2URL: http://cds.linear.com/docs/en/datasheet/1812fb.pdf; ComponentLink3Description: Package Specification; ComponentLink3URL: http://cds.linear.com/docs/en/packaging/SOT_5_05-08-1635.pdf
footprint LT-S5-5-TSOT-23_N (SOT23, 5-Leads, Body 2.90x1.63mm, Pitch 0.95mm, IPC Medium Density)
footprint LT-S5-5-TSOT-23_L (SOT23, 5-Leads, Body 2.90x1.63mm, Pitch 0.95mm, IPC High Density)
footprint LT-S5-5-TSOT-23_M (SOT23, 5-Leads, Body 2.90x1.63mm, Pitch 0.95mm, IPC Low Density)
pins: 1 VOUT (out), 2 V- (power), 3 +IN (in), 4 -IN (in), 5 V+ (power)

## LT1812CS5#TRPBF
designator U?
Single Channel, Low Noise, High Speed, High Power, Operational Amplifier with Shutdown, 100 MHz Typical GBW, 750 V/us Typical SR, 2.5 to 12.6 V, 5-Pin SOT23 (S5-5), Commercial, Pb-Free, Reel; Linear Technology Part Number: LT1812; Manufacturer: Linear Technology; PartNumber: LT1812CS5#TRPBF; Channels (#): 1; GBW (MHz) Typical: 100; Is (mA) Typical: 3; SR (V/us) Typical: 750; Vos (mV) Guaranteed: 1.5; Vos (mV) Typical: 0.4; Vs Max (V): 12.6; Vs Min (V): 2.5; DatasheetVersion: Rev. B; PackageReference: LT-S5-5-TSOT-23; PackageDescription: 5-Lead Plastic TSOT-23, Body 1.63 x 2.90 mm, Pitch 0.95 mm; Supplier 1: Digi-Key; Supplier Part Number 1: LT1812CS5#TRPBF-ND; Packing: Reel; RoHS: Pb-Free; Type: VFB; Mounting Technology: Surface Mount; Code_JEDEC: MO-193; ComponentLink1Description: Manufacturer URL; ComponentLink1URL: http://www.linear.com/; ComponentLink2Description: Datasheet; ComponentLink2URL: http://cds.linear.com/docs/en/datasheet/1812fb.pdf; ComponentLink3Description: Package Specification; ComponentLink3URL: http://cds.linear.com/docs/en/packaging/SOT_5_05-08-1635.pdf
footprint LT-S5-5-TSOT-23_N (SOT23, 5-Leads, Body 2.90x1.63mm, Pitch 0.95mm, IPC Medium Density)
footprint LT-S5-5-TSOT-23_L (SOT23, 5-Leads, Body 2.90x1.63mm, Pitch 0.95mm, IPC High Density)
footprint LT-S5-5-TSOT-23_M (SOT23, 5-Leads, Body 2.90x1.63mm, Pitch 0.95mm, IPC Low Density)
pins: 1 VOUT (out), 2 V- (power), 3 +IN (in), 4 -IN (in), 5 V+ (power)

## LT1812CS8
designator U?
Single Channel, Low Noise, High Speed, High Power, Operational Amplifier with Shutdown, 100 MHz Typical GBW, 750 V/us Typical SR, 2.5 to 12.6 V, 8-Pin SOIC (S8-8), Commercial; Linear Technology Part Number: LT1812; Manufacturer: Linear Technology; PartNumber: LT1812CS8; Channels (#): 1; GBW (MHz) Typical: 100; Is (mA) Typical: 3; SR (V/us) Typical: 750; Vos (mV) Guaranteed: 1.5; Vos (mV) Typical: 0.4; Vs Max (V): 12.6; Vs Min (V): 2.5; DatasheetVersion: Rev. B; PackageVersion: Rev G; PackageReference: LT-S8-8; PackageDescription: 8-Pin Plastic Small Outline, Body 4.9 x 3.9 mm, Pitch 1.27 mm; Supplier 1: Digi-Key; Supplier Part Number 1: LT1812CS8-ND; Type: VFB; Mounting Technology: Surface Mount; ComponentLink1Description: Manufacturer URL; ComponentLink1URL: http://www.linear.com/; ComponentLink2Description: Datasheet; ComponentLink2URL: http://cds.linear.com/docs/en/datasheet/1812fb.pdf; ComponentLink3Description: Package Specification; ComponentLink3URL: http://cds.linear.com/docs/en/packaging/05081610_G_SO8.pdf
footprint LT-S8-8_N (SOIC, 8-Leads, Body 4.9x3.9mm, Pitch 1.27mm, IPC Medium Density)
footprint LT-S8-8_L (SOIC, 8-Leads, Body 4.9x3.9mm, Pitch 1.27mm, IPC High Density)
footprint LT-S8-8_M (SOIC, 8-Leads, Body 4.9x3.9mm, Pitch 1.27mm, IPC Low Density)
pins: 1 NC, 2 -IN (in), 3 +IN (in), 4 V- (power), 5 NC, 6 VOUT (out), 7 V+ (power), 8 ~{SHDN} (in)

## LT1812CS8#PBF
designator U?
Single Channel, Low Noise, High Speed, High Power, Operational Amplifier with Shutdown, 100 MHz Typical GBW, 750 V/us Typical SR, 2.5 to 12.6 V, 8-Pin SOIC (S8-8), Commercial, Pb-Free; Linear Technology Part Number: LT1812; Manufacturer: Linear Technology; PartNumber: LT1812CS8#PBF; Channels (#): 1; GBW (MHz) Typical: 100; Is (mA) Typical: 3; SR (V/us) Typical: 750; Vos (mV) Guaranteed: 1.5; Vos (mV) Typical: 0.4; Vs Max (V): 12.6; Vs Min (V): 2.5; DatasheetVersion: Rev. B; PackageVersion: Rev G; PackageReference: LT-S8-8; PackageDescription: 8-Pin Plastic Small Outline, Body 4.9 x 3.9 mm, Pitch 1.27 mm; Supplier 1: Digi-Key; Supplier Part Number 1: LT1812CS8#PBF-ND; Supplier 2: Farnell; Supplier Part Number 2: 1330713; Supplier 3: Newark; Supplier Part Number 3: 57M6883; RoHS: Pb-Free; Type: VFB; Mounting Technology: Surface Mount; ComponentLink1Description: Manufacturer URL; ComponentLink1URL: http://www.linear.com/; ComponentLink2Description: Datasheet; ComponentLink2URL: http://cds.linear.com/docs/en/datasheet/1812fb.pdf; ComponentLink3Description: Package Specification; ComponentLink3URL: http://cds.linear.com/docs/en/packaging/05081610_G_SO8.pdf
footprint LT-S8-8_N (SOIC, 8-Leads, Body 4.9x3.9mm, Pitch 1.27mm, IPC Medium Density)
footprint LT-S8-8_L (SOIC, 8-Leads, Body 4.9x3.9mm, Pitch 1.27mm, IPC High Density)
footprint LT-S8-8_M (SOIC, 8-Leads, Body 4.9x3.9mm, Pitch 1.27mm, IPC Low Density)
pins: 1 NC, 2 -IN (in), 3 +IN (in), 4 V- (power), 5 NC, 6 VOUT (out), 7 V+ (power), 8 ~{SHDN} (in)

## LT1812CS8#TR
designator U?
Single Channel, Low Noise, High Speed, High Power, Operational Amplifier with Shutdown, 100 MHz Typical GBW, 750 V/us Typical SR, 2.5 to 12.6 V, 8-Pin SOIC (S8-8), Commercial, Reel; Linear Technology Part Number: LT1812; Manufacturer: Linear Technology; PartNumber: LT1812CS8#TR; Channels (#): 1; GBW (MHz) Typical: 100; Is (mA) Typical: 3; SR (V/us) Typical: 750; Vos (mV) Guaranteed: 1.5; Vos (mV) Typical: 0.4; Vs Max (V): 12.6; Vs Min (V): 2.5; DatasheetVersion: Rev. B; PackageVersion: Rev G; PackageReference: LT-S8-8; PackageDescription: 8-Pin Plastic Small Outline, Body 4.9 x 3.9 mm, Pitch 1.27 mm; Supplier 1: Digi-Key; Supplier Part Number 1: LT1812CS8#TR-ND; Packing: Reel; Type: VFB; Mounting Technology: Surface Mount; ComponentLink1Description: Manufacturer URL; ComponentLink1URL: http://www.linear.com/; ComponentLink2Description: Datasheet; ComponentLink2URL: http://cds.linear.com/docs/en/datasheet/1812fb.pdf; ComponentLink3Description: Package Specification; ComponentLink3URL: http://cds.linear.com/docs/en/packaging/05081610_G_SO8.pdf
footprint LT-S8-8_N (SOIC, 8-Leads, Body 4.9x3.9mm, Pitch 1.27mm, IPC Medium Density)
footprint LT-S8-8_L (SOIC, 8-Leads, Body 4.9x3.9mm, Pitch 1.27mm, IPC High Density)
footprint LT-S8-8_M (SOIC, 8-Leads, Body 4.9x3.9mm, Pitch 1.27mm, IPC Low Density)
pins: 1 NC, 2 -IN (in), 3 +IN (in), 4 V- (power), 5 NC, 6 VOUT (out), 7 V+ (power), 8 ~{SHDN} (in)

## LT1812CS8#TRPBF
designator U?
Single Channel, Low Noise, High Speed, High Power, Operational Amplifier with Shutdown, 100 MHz Typical GBW, 750 V/us Typical SR, 2.5 to 12.6 V, 8-Pin SOIC (S8-8), Commercial, Pb-Free, Reel; Linear Technology Part Number: LT1812; Manufacturer: Linear Technology; PartNumber: LT1812CS8#TRPBF; Channels (#): 1; GBW (MHz) Typical: 100; Is (mA) Typical: 3; SR (V/us) Typical: 750; Vos (mV) Guaranteed: 1.5; Vos (mV) Typical: 0.4; Vs Max (V): 12.6; Vs Min (V): 2.5; DatasheetVersion: Rev. B; PackageVersion: Rev G; PackageReference: LT-S8-8; PackageDescription: 8-Pin Plastic Small Outline, Body 4.9 x 3.9 mm, Pitch 1.27 mm; Supplier 1: Digi-Key; Supplier Part Number 1: LT1812CS8#TRPBF-ND; Packing: Reel; RoHS: Pb-Free; Type: VFB; Mounting Technology: Surface Mount; ComponentLink1Description: Manufacturer URL; ComponentLink1URL: http://www.linear.com/; ComponentLink2Description: Datasheet; ComponentLink2URL: http://cds.linear.com/docs/en/datasheet/1812fb.pdf; ComponentLink3Description: Package Specification; ComponentLink3URL: http://cds.linear.com/docs/en/packaging/05081610_G_SO8.pdf
footprint LT-S8-8_N (SOIC, 8-Leads, Body 4.9x3.9mm, Pitch 1.27mm, IPC Medium Density)
footprint LT-S8-8_L (SOIC, 8-Leads, Body 4.9x3.9mm, Pitch 1.27mm, IPC High Density)
footprint LT-S8-8_M (SOIC, 8-Leads, Body 4.9x3.9mm, Pitch 1.27mm, IPC Low Density)
pins: 1 NC, 2 -IN (in), 3 +IN (in), 4 V- (power), 5 NC, 6 VOUT (out), 7 V+ (power), 8 ~{SHDN} (in)

## LT1812IS5
designator U?
Single Channel, Low Noise, High Speed, High Power, Operational Amplifier with Shutdown, 100 MHz Typical GBW, 750 V/us Typical SR, 2.5 to 12.6 V, 5-Pin SOT23 (S5-5), Industrial; Linear Technology Part Number: LT1812; Manufacturer: Linear Technology; PartNumber: LT1812IS5; Channels (#): 1; GBW (MHz) Typical: 100; Is (mA) Typical: 3; SR (V/us) Typical: 750; Vos (mV) Guaranteed: 1.5; Vos (mV) Typical: 0.4; Vs Max (V): 12.6; Vs Min (V): 2.5; DatasheetVersion: Rev. B; PackageReference: LT-S5-5-TSOT-23; PackageDescription: 5-Lead Plastic TSOT-23, Body 1.63 x 2.90 mm, Pitch 0.95 mm; Type: VFB; Mounting Technology: Surface Mount; Code_JEDEC: MO-193; ComponentLink1Description: Manufacturer URL; ComponentLink1URL: http://www.linear.com/; ComponentLink2Description: Datasheet; ComponentLink2URL: http://cds.linear.com/docs/en/datasheet/1812fb.pdf; ComponentLink3Description: Package Specification; ComponentLink3URL: http://cds.linear.com/docs/en/packaging/SOT_5_05-08-1635.pdf
footprint LT-S5-5-TSOT-23_N (SOT23, 5-Leads, Body 2.90x1.63mm, Pitch 0.95mm, IPC Medium Density)
footprint LT-S5-5-TSOT-23_L (SOT23, 5-Leads, Body 2.90x1.63mm, Pitch 0.95mm, IPC High Density)
footprint LT-S5-5-TSOT-23_M (SOT23, 5-Leads, Body 2.90x1.63mm, Pitch 0.95mm, IPC Low Density)
pins: 1 VOUT (out), 2 V- (power), 3 +IN (in), 4 -IN (in), 5 V+ (power)

## LT1812IS5#PBF
designator U?
Single Channel, Low Noise, High Speed, High Power, Operational Amplifier with Shutdown, 100 MHz Typical GBW, 750 V/us Typical SR, 2.5 to 12.6 V, 5-Pin SOT23 (S5-5), Industrial, Pb-Free; Linear Technology Part Number: LT1812; Manufacturer: Linear Technology; PartNumber: LT1812IS5#PBF; Channels (#): 1; GBW (MHz) Typical: 100; Is (mA) Typical: 3; SR (V/us) Typical: 750; Vos (mV) Guaranteed: 1.5; Vos (mV) Typical: 0.4; Vs Max (V): 12.6; Vs Min (V): 2.5; DatasheetVersion: Rev. B; PackageReference: LT-S5-5-TSOT-23; PackageDescription: 5-Lead Plastic TSOT-23, Body 1.63 x 2.90 mm, Pitch 0.95 mm; RoHS: Pb-Free; Type: VFB; Mounting Technology: Surface Mount; Code_JEDEC: MO-193; ComponentLink1Description: Manufacturer URL; ComponentLink1URL: http://www.linear.com/; ComponentLink2Description: Datasheet; ComponentLink2URL: http://cds.linear.com/docs/en/datasheet/1812fb.pdf; ComponentLink3Description: Package Specification; ComponentLink3URL: http://cds.linear.com/docs/en/packaging/SOT_5_05-08-1635.pdf
footprint LT-S5-5-TSOT-23_N (SOT23, 5-Leads, Body 2.90x1.63mm, Pitch 0.95mm, IPC Medium Density)
footprint LT-S5-5-TSOT-23_L (SOT23, 5-Leads, Body 2.90x1.63mm, Pitch 0.95mm, IPC High Density)
footprint LT-S5-5-TSOT-23_M (SOT23, 5-Leads, Body 2.90x1.63mm, Pitch 0.95mm, IPC Low Density)
pins: 1 VOUT (out), 2 V- (power), 3 +IN (in), 4 -IN (in), 5 V+ (power)

## LT1812IS5#TR
designator U?
Single Channel, Low Noise, High Speed, High Power, Operational Amplifier with Shutdown, 100 MHz Typical GBW, 750 V/us Typical SR, 2.5 to 12.6 V, 5-Pin SOT23 (S5-5), Industrial, Reel; Linear Technology Part Number: LT1812; Manufacturer: Linear Technology; PartNumber: LT1812IS5#TR; Channels (#): 1; GBW (MHz) Typical: 100; Is (mA) Typical: 3; SR (V/us) Typical: 750; Vos (mV) Guaranteed: 1.5; Vos (mV) Typical: 0.4; Vs Max (V): 12.6; Vs Min (V): 2.5; DatasheetVersion: Rev. B; PackageReference: LT-S5-5-TSOT-23; PackageDescription: 5-Lead Plastic TSOT-23, Body 1.63 x 2.90 mm, Pitch 0.95 mm; Supplier 1: Digi-Key; Supplier Part Number 1: LT1812IS5#TR-ND; Packing: Reel; Type: VFB; Mounting Technology: Surface Mount; Code_JEDEC: MO-193; ComponentLink1Description: Manufacturer URL; ComponentLink1URL: http://www.linear.com/; ComponentLink2Description: Datasheet; ComponentLink2URL: http://cds.linear.com/docs/en/datasheet/1812fb.pdf; ComponentLink3Description: Package Specification; ComponentLink3URL: http://cds.linear.com/docs/en/packaging/SOT_5_05-08-1635.pdf
footprint LT-S5-5-TSOT-23_N (SOT23, 5-Leads, Body 2.90x1.63mm, Pitch 0.95mm, IPC Medium Density)
footprint LT-S5-5-TSOT-23_L (SOT23, 5-Leads, Body 2.90x1.63mm, Pitch 0.95mm, IPC High Density)
footprint LT-S5-5-TSOT-23_M (SOT23, 5-Leads, Body 2.90x1.63mm, Pitch 0.95mm, IPC Low Density)
pins: 1 VOUT (out), 2 V- (power), 3 +IN (in), 4 -IN (in), 5 V+ (power)

## LT1812IS5#TRM
designator U?
Single Channel, Low Noise, High Speed, High Power, Operational Amplifier with Shutdown, 100 MHz Typical GBW, 750 V/us Typical SR, 2.5 to 12.6 V, 5-Pin SOT23 (S5-5), Industrial, Mini Reel; Linear Technology Part Number: LT1812; Manufacturer: Linear Technology; PartNumber: LT1812IS5#TRM; Channels (#): 1; GBW (MHz) Typical: 100; Is (mA) Typical: 3; SR (V/us) Typical: 750; Vos (mV) Guaranteed: 1.5; Vos (mV) Typical: 0.4; Vs Max (V): 12.6; Vs Min (V): 2.5; DatasheetVersion: Rev. B; PackageReference: LT-S5-5-TSOT-23; PackageDescription: 5-Lead Plastic TSOT-23, Body 1.63 x 2.90 mm, Pitch 0.95 mm; Supplier 1: Digi-Key; Supplier Part Number 1: LT1812IS5#TRM-ND; Packing: Mini Reel; Type: VFB; Mounting Technology: Surface Mount; Code_JEDEC: MO-193; ComponentLink1Description: Manufacturer URL; ComponentLink1URL: http://www.linear.com/; ComponentLink2Description: Datasheet; ComponentLink2URL: http://cds.linear.com/docs/en/datasheet/1812fb.pdf; ComponentLink3Description: Package Specification; ComponentLink3URL: http://cds.linear.com/docs/en/packaging/SOT_5_05-08-1635.pdf
footprint LT-S5-5-TSOT-23_N (SOT23, 5-Leads, Body 2.90x1.63mm, Pitch 0.95mm, IPC Medium Density)
footprint LT-S5-5-TSOT-23_L (SOT23, 5-Leads, Body 2.90x1.63mm, Pitch 0.95mm, IPC High Density)
footprint LT-S5-5-TSOT-23_M (SOT23, 5-Leads, Body 2.90x1.63mm, Pitch 0.95mm, IPC Low Density)
pins: 1 VOUT (out), 2 V- (power), 3 +IN (in), 4 -IN (in), 5 V+ (power)

## LT1812IS5#TRMPBF
designator U?
Single Channel, Low Noise, High Speed, High Power, Operational Amplifier with Shutdown, 100 MHz Typical GBW, 750 V/us Typical SR, 2.5 to 12.6 V, 5-Pin SOT23 (S5-5), Industrial, Pb-Free, Mini Reel; Linear Technology Part Number: LT1812; Manufacturer: Linear Technology; PartNumber: LT1812IS5#TRMPBF; Channels (#): 1; GBW (MHz) Typical: 100; Is (mA) Typical: 3; SR (V/us) Typical: 750; Vos (mV) Guaranteed: 1.5; Vos (mV) Typical: 0.4; Vs Max (V): 12.6; Vs Min (V): 2.5; DatasheetVersion: Rev. B; PackageReference: LT-S5-5-TSOT-23; PackageDescription: 5-Lead Plastic TSOT-23, Body 1.63 x 2.90 mm, Pitch 0.95 mm; Supplier 1: Digi-Key; Supplier Part Number 1: LT1812IS5#TRMPBF-ND; Packing: Mini Reel; RoHS: Pb-Free; Type: VFB; Mounting Technology: Surface Mount; Code_JEDEC: MO-193; ComponentLink1Description: Manufacturer URL; ComponentLink1URL: http://www.linear.com/; ComponentLink2Description: Datasheet; ComponentLink2URL: http://cds.linear.com/docs/en/datasheet/1812fb.pdf; ComponentLink3Description: Package Specification; ComponentLink3URL: http://cds.linear.com/docs/en/packaging/SOT_5_05-08-1635.pdf
footprint LT-S5-5-TSOT-23_N (SOT23, 5-Leads, Body 2.90x1.63mm, Pitch 0.95mm, IPC Medium Density)
footprint LT-S5-5-TSOT-23_L (SOT23, 5-Leads, Body 2.90x1.63mm, Pitch 0.95mm, IPC High Density)
footprint LT-S5-5-TSOT-23_M (SOT23, 5-Leads, Body 2.90x1.63mm, Pitch 0.95mm, IPC Low Density)
pins: 1 VOUT (out), 2 V- (power), 3 +IN (in), 4 -IN (in), 5 V+ (power)